# Altium schematic symbol library AD5541ARZ.SchLib: 2 symbols
Pins are listed as number, name and electrical type; pins without a type are passive.

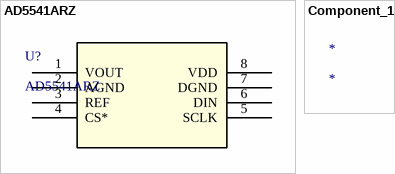
[diagram p0: symbols AD5541ARZ to Component_1]

## AD5541ARZ
designator U?
No Description Available; Mfr_Name: Analog Devices Inc; Copyright: Copyright (C) 2021 Ultra Librarian. All rights reserved.; Manufacturer_Part_Number: AD5541ARZ; RefDes: RefDes; Type: DEV
footprint R_8_ADI
pins: 1 VOUT, 2 AGND, 3 REF, 4 CS*, 5 SCLK, 6 DIN, 7 DGND, 8 VDD (power)

## Component_1
designator *